# Altium footprint library DPAK_termopad.PcbLib: 1 footprints
Each footprint in its own frame and in the unit in brackets; x right, y up, seen from the top. Pads: shape width x height; smd on the part's side, far side on the other; paste and mask are expansions set on the pad; w line width, h text height; cw(c..) or ccw(c..) is an arc to the next point about the centre after c.
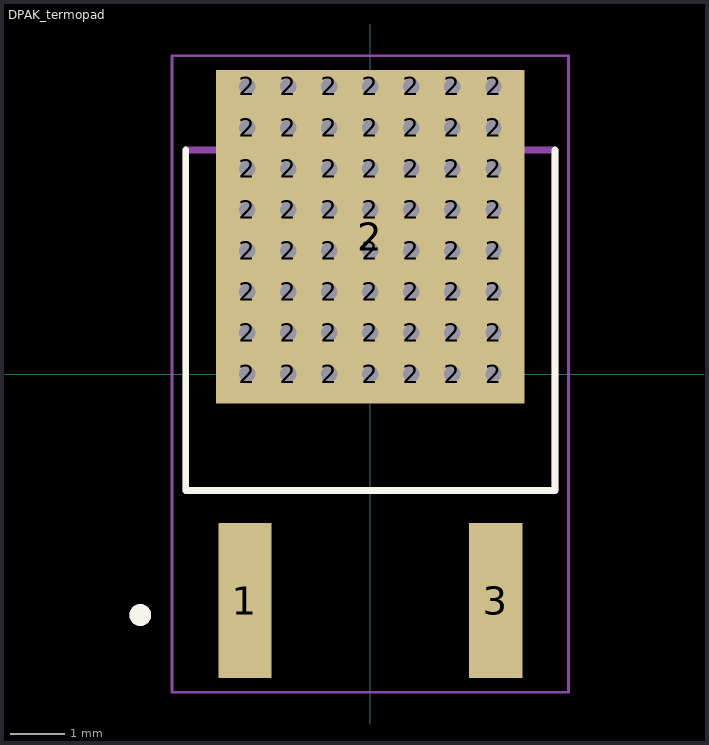
[diagram p0: the footprint, top view; thin cyan lines are the x and y axes]

## DPAK_termopad [mm]
pads (59):
  rect 0.97x2.83 smd: 1(-2.29,-4.14) 3(2.29,-4.14)
  round 0.6 hole 0.3: 2(-2.25,0) 2(-2.25,0.75) 2(-2.25,1.5) 2(-2.25,2.25) 2(-2.25,3) 2(-2.25,3.75) 2(-2.25,4.5) 2(-2.25,5.25) 2(-1.5,0) 2(-1.5,0.75) 2(-1.5,1.5) 2(-1.5,2.25) 2(-1.5,3) 2(-1.5,3.75) 2(-1.5,4.5) 2(-1.5,5.25) 2(-0.75,0) 2(-0.75,0.75) 2(-0.75,1.5) 2(-0.75,2.25) 2(-0.75,3) 2(-0.75,3.75) 2(-0.75,4.5) 2(-0.75,5.25) 2(0,0) 2(0,0.75) 2(0,1.5) 2(0,2.25) 2(0,3) 2(0,3.75) 2(0,4.5) 2(0,5.25) 2(0.75,0) 2(0.75,0.75) 2(0.75,1.5) 2(0.75,2.25) 2(0.75,3) 2(0.75,3.75) 2(0.75,4.5) 2(0.75,5.25) 2(1.5,0) 2(1.5,0.75) 2(1.5,1.5) 2(1.5,2.25) 2(1.5,3) 2(1.5,3.75) 2(1.5,4.5) 2(1.5,5.25) 2(2.25,0) 2(2.25,0.75) 2(2.25,1.5) 2(2.25,2.25) 2(2.25,3) 2(2.25,3.75) 2(2.25,4.5) 2(2.25,5.25)
  rect 5.63x6.09 smd: 2(0,2.51)
Top Overlay:
  circle w0.2: c-4.2,-4.4 r0.1
  lines w0.127: -3.37,4.093 -3.37,-2.128 3.37,-2.128 3.37,4.093
Mechanical 13:
  circle w0.2: c-4.2,-4.4 r0.1
  lines w0.127: -3.37,-2.128 3.37,-2.128 3.37,4.093 -3.37,4.093 -3.37,-2.128
Mechanical 15:
  lines w0.05: -3.62,-5.81 3.62,-5.81 3.62,5.81 -3.62,5.81 -3.62,-5.81
3D body "step_temp.STEP": height 2.39, standoff 0, extent -3.27,-4.959 3.27,4.959